# Altium schematic symbol library SamacSys.SchLib: 35 symbols
Pins are listed as number, name and electrical type; pins without a type are passive.

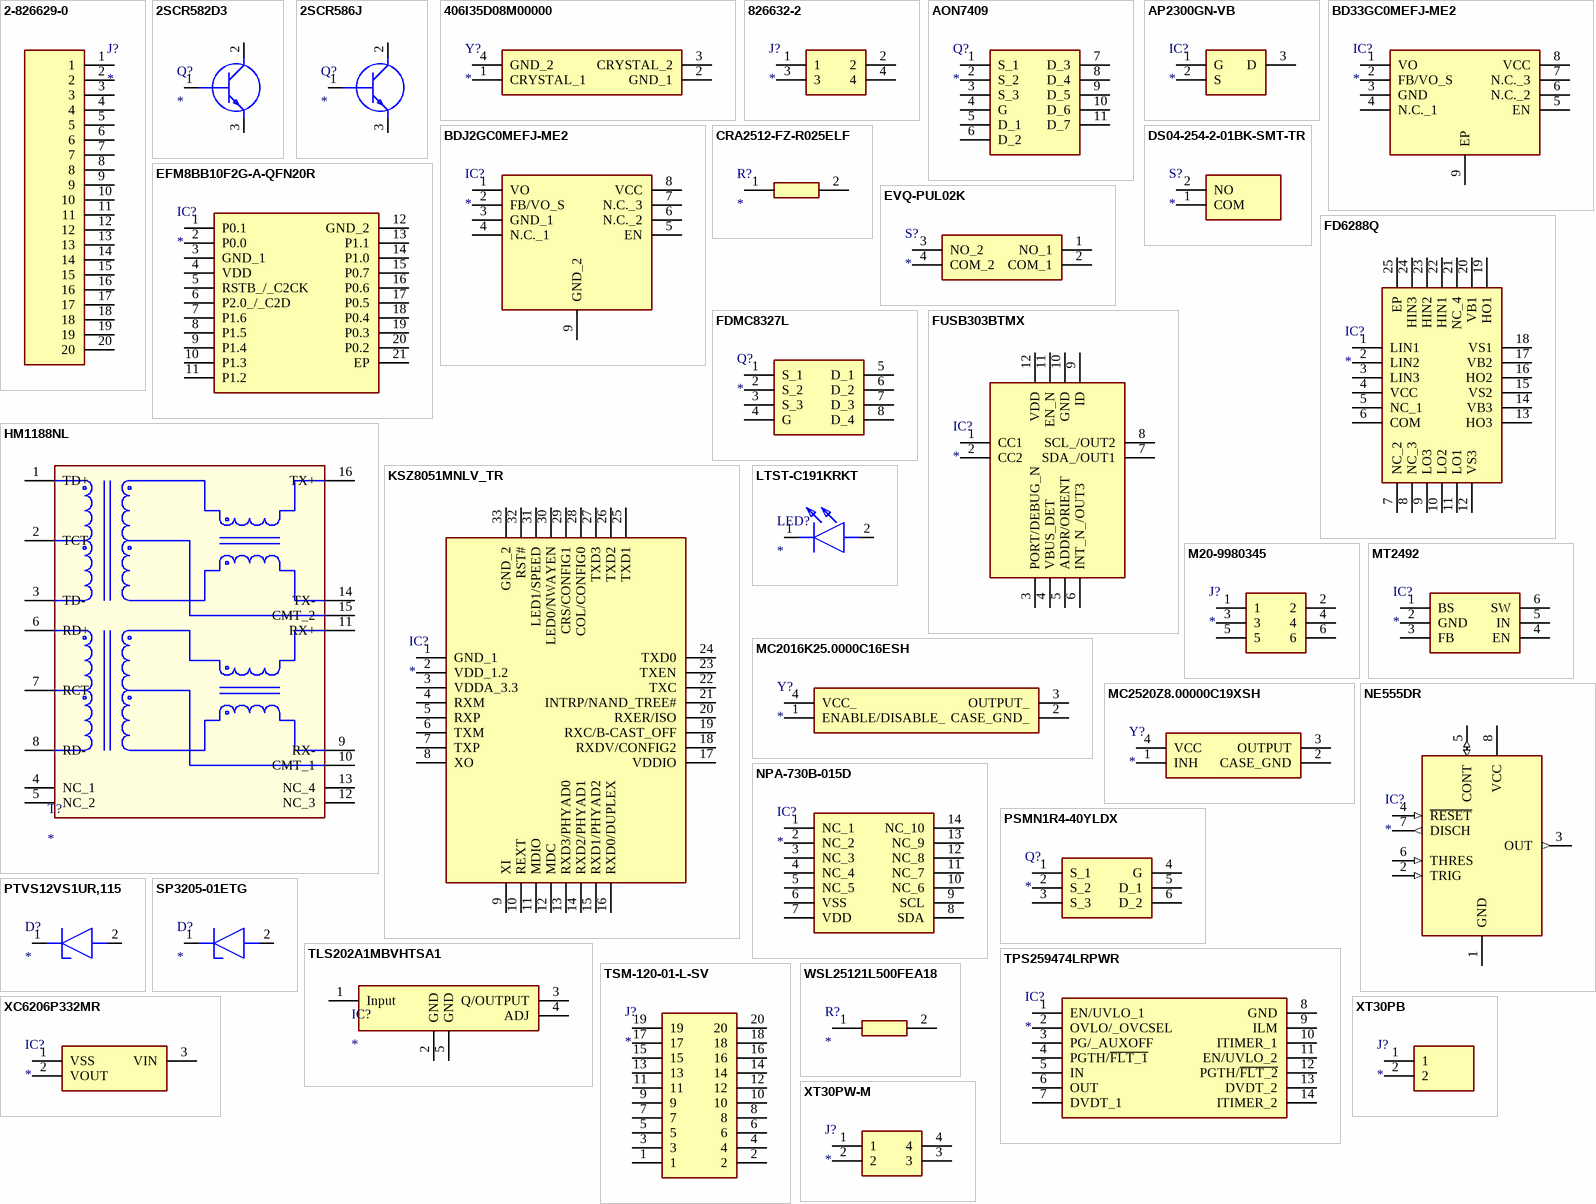
[diagram p0: symbols 2-826629-0 to XT30PW-M]

## 2-826629-0
designator J?
Connector; Manufacturer_Name: TE Connectivity; Manufacturer_Part_Number: 2-826629-0; Datasheet Link: http://www.te.com/commerce/DocumentDelivery/DDEController?Action=showdoc&DocId=Customer+Drawing%7F826629%7FAC%7Fpdf%7FEnglish%7FENG_CD_826629_AC.pdf%7F2-826629-0; Height: 9.5mm; Mouser Part Number: 571-2-826629-0; Mouser Price/Stock: https://www.mouser.co.uk/ProductDetail/TE-Connectivity/2-826629-0?qs=FazuUmncXom55roGwM1n6g%3D%3D; Arrow Part Number: 2-826629-0; Arrow Price/Stock: https://www.arrow.com/en/products/2-826629-0/te-connectivity
footprint HDRV20W63P0X254_1X20_5080X250X950P
pins: 1, 2, 3, 4, 5, 6, 7, 8, 9, 10, 11, 12, 13, 14, 15, 16, 17, 18, 19, 20

## 2SCR582D3
designator Q?
Transistor BJT NPN; Manufacturer_Name: ROHM Semiconductor; Manufacturer_Part_Number: 2SCR582D3; Datasheet Link: https://fscdn.rohm.com/en/products/databook/datasheet/discrete/transistor/bipolar/2scr582d3tl-e.pdf; Height: 2.2mm
footprint 2SAR573D3FRA
pins: 1 B, 2 C, 3 E

## 2SCR586J
designator Q?
Transistor BJT NPN; Manufacturer_Name: ROHM Semiconductor; Manufacturer_Part_Number: 2SCR586J; Datasheet Link: https://fscdn.rohm.com/en/products/databook/datasheet/discrete/transistor/bipolar/2scr586jfrgtll-e.pdf; Height: 4.5mm
footprint 2SCR586J
pins: 1 B, 2 C, 3 E

## 406I35D08M00000
designator Y?
Crystal or Oscillator; Manufacturer_Name: CTS; Manufacturer_Part_Number: 406I35D08M00000; Datasheet Link: https://www.ctscorp.com/wp-content/uploads/2015/12/008-0260-0.pdf; Height: 1.2mm; Mouser Part Number: 774-406I35D08M00000; Mouser Price/Stock: https://www.mouser.co.uk/ProductDetail/CTS-Electronic-Components/406I35D08M00000?qs=tjlMjqRIEYS%252BFfIvx6jyTQ%3D%3D; Arrow Part Number: 406I35D08M00000; Arrow Price/Stock: https://www.arrow.com/en/products/406i35d08m00000/cts
footprint 406I35D08M00000
pins: 1 CRYSTAL_1, 2 GND_1, 3 CRYSTAL_2, 4 GND_2

## 826632-2
designator J?
Connector; Manufacturer_Name: TE Connectivity; Manufacturer_Part_Number: 826632-2; Datasheet Link: https://datasheet.datasheetarchive.com/originals/distributors/Datasheets-DGA21/2082916.pdf; Height: 9.7mm; Mouser Part Number: 571-826632-2; Mouser Price/Stock: https://www.mouser.co.uk/ProductDetail/TE-Connectivity/826632-2?qs=6Tj7fpyCzVqX33s56cqpJA%3D%3D; Arrow Part Number: 826632-2; Arrow Price/Stock: https://www.arrow.com/en/products/826632-2/te-connectivity?region=europe
footprint HDRV4W85P254_2X2_508X500X970P
pins: 1, 2, 3, 4

## AON7409
designator Q?
MOSFET (P-Channel); Manufacturer_Name: Alpha & Omega Semiconductors; Manufacturer_Part_Number: AON7409; Datasheet Link: http://www.aosmd.com/res/data_sheets/AON7409.pdf; Height: 0.9mm; Arrow Part Number: AON7409; Arrow Price/Stock: https://www.arrow.com/en/products/aon7409/alpha-and-omega-semiconductor
footprint AON7409
pins: 1 S_1, 2 S_2, 3 S_3, 4 G, 5 D_1, 6 D_2, 7 D_3, 8 D_4, 9 D_5, 10 D_6, 11 D_7

## AP2300GN-VB
designator IC?
Integrated Circuit; Manufacturer_Name: VBsemi Elec; Manufacturer_Part_Number: AP2300GN-VB; Datasheet Link: https://datasheet.lcsc.com/lcsc/2211010930_VBsemi-Elec-AP2300GN-VB_C709910.pdf; Height: 1.12mm
footprint SOT95P237X112-3N
pins: 1 G, 2 S, 3 D

## BD33GC0MEFJ-ME2
designator IC?
Integrated Circuit; Manufacturer_Name: ROHM Semiconductor; Manufacturer_Part_Number: BD33GC0MEFJ-ME2; Datasheet Link: https://www.mouser.cl/datasheet/2/348/bdxxgc0mefj-m-e-1874062.pdf; Height: 1mm; Mouser Part Number: 755-BD33GC0MEFJ-ME2; Mouser Price/Stock: https://www.mouser.com/Search/Refine.aspx?Keyword=755-BD33GC0MEFJ-ME2
footprint SOIC127P600X100-9N
pins: 1 VO, 2 FB/VO_S, 3 GND, 4 N.C._1, 5 EN, 6 N.C._2, 7 N.C._3, 8 VCC, 9 EP

## BDJ2GC0MEFJ-ME2
designator IC?
Integrated Circuit; Manufacturer_Name: ROHM Semiconductor; Manufacturer_Part_Number: BDJ2GC0MEFJ-ME2; Datasheet Link: https://datasheet.datasheetarchive.com/originals/dk/DKDS-10/186399.pdf; Height: 1mm; Mouser Part Number: 755-BDJ2GC0MEFJ-ME2; Mouser Price/Stock: https://www.mouser.co.uk/ProductDetail/ROHM-Semiconductor/BDJ2GC0MEFJ-ME2?qs=9Cg39qEKpi4UJ85%2FAll47w%3D%3D
footprint SOIC127P600X100-9N
pins: 1 VO, 2 FB/VO_S, 3 GND_1, 4 N.C._1, 5 EN, 6 N.C._2, 7 N.C._3, 8 VCC, 9 GND_2

## CRA2512-FZ-R025ELF
designator R?
Resistor; Manufacturer_Name: Bourns; Manufacturer_Part_Number: CRA2512-FZ-R025ELF; Datasheet Link: https://datasheet.datasheetarchive.com/originals/distributors/SFDatasheet-7/sf-000140177.pdf; Height: 0.9mm; Mouser Part Number: 652-CRA2512FZR025ELF; Mouser Price/Stock: https://www.mouser.co.uk/ProductDetail/Bourns/CRA2512-FZ-R025ELF?qs=GqIuCp6zjbWCbaqRzHZejQ%3D%3D; Arrow Part Number: CRA2512-FZ-R025ELF; Arrow Price/Stock: https://www.arrow.com/en/products/cra2512-fz-r025elf/bourns?region=nac
footprint RESC6434X90N
pins: 1, 2

## DS04-254-2-01BK-SMT-TR
designator S?
Switch; Manufacturer_Name: CUI Devices; Manufacturer_Part_Number: DS04-254-2-01BK-SMT-TR; Datasheet Link: https://www.cuidevices.com/product/resource/supplyframepdf/ds04-254-smt.pdf; Height: 4.3mm; Mouser Part Number: 490-DS04254201BK-STR; Mouser Price/Stock: https://www.mouser.co.uk/ProductDetail/CUI-Devices/DS04-254-2-01BK-SMT-TR?qs=wnTfsH77Xs4xXRFXKF0ssg%3D%3D; Arrow Part Number: DS04-254-2-01BK-SMT-TR; Arrow Price/Stock: https://www.arrow.com/en/products/ds04-254-2-01bk-smt-tr/cui-devices?region=nac
footprint DS04254201BKSMTTR
pins: 1 COM, 2 NO

## EFM8BB10F2G-A-QFN20R
designator IC?
Integrated Circuit; Manufacturer_Name: Silicon Labs; Manufacturer_Part_Number: EFM8BB10F2G-A-QFN20R; Datasheet Link: https://www.silabs.com/documents/public/data-sheets/efm8bb1-datasheet.pdf; Height: 0.8mm; Mouser Part Number: 634-8BB10F2GAQF20R; Mouser Price/Stock: https://www.mouser.co.uk/ProductDetail/Silicon-Labs/EFM8BB10F2G-A-QFN20R?qs=DCjbIwhU0ZtADu%252B55HsWtA%3D%3D
footprint EFM8BB10F2GAQFN20R
pins: 1 P0.1, 2 P0.0, 3 GND_1, 4 VDD, 5 RSTB_/_C2CK, 6 P2.0_/_C2D, 7 P1.6, 8 P1.5, 9 P1.4, 10 P1.3, 11 P1.2, 12 GND_2, 13 P1.1, 14 P1.0, 15 P0.7, 16 P0.6, 17 P0.5, 18 P0.4, 19 P0.3, 20 P0.2, 21 EP

## EVQ-PUL02K
designator S?
Switch; Manufacturer_Name: Panasonic; Manufacturer_Part_Number: EVQ-PUL02K; Datasheet Link: https://www3.panasonic.biz/ac/e_download/control/switch/light-touch/catalog/sw_lt_eng_smalls_side.pdf?f_cd=402910&via=ok; Height: 1.95mm; Mouser Part Number: 667-EVQ-PUL02K; Mouser Price/Stock: https://www.mouser.co.uk/ProductDetail/Panasonic/EVQ-PUL02K?qs=m7HfDvvzlLb0VFxnw%2FUN1w%3D%3D; Arrow Part Number: EVQ-PUL02K; Arrow Price/Stock: https://www.arrow.com/en/products/evq-pul02k/panasonic?region=nac
footprint EVQPUL02K
pins: 1 NO_1, 2 COM_1, 3 NO_2, 4 COM_2

## FD6288Q
designator IC?
Integrated Circuit; Manufacturer_Name: Fortior Tech; Manufacturer_Part_Number: FD6288Q; Datasheet Link: https://datasheet.lcsc.com/szlcsc/1811131655_Fortior-Tech-FD6288Q_C328453.pdf; Height: 0.9mm
footprint QFN50P400X400X90-25N-D
pins: 1 LIN1, 2 LIN2, 3 LIN3, 4 VCC, 5 NC_1, 6 COM, 7 NC_2, 8 NC_3, 9 LO3, 10 LO2, 11 LO1, 12 VS3, 13 HO3, 14 VB3, 15 VS2, 16 HO2, 17 VB2, 18 VS1, 19 HO1, 20 VB1, 21 NC_4, 22 HIN1, 23 HIN2, 24 HIN3, 25 EP

## FDMC8327L
designator Q?
MOSFET (N-Channel); Manufacturer_Name: onsemi; Manufacturer_Part_Number: FDMC8327L; Datasheet Link: https://www.onsemi.com/pub/Collateral/FDMC8327L-D.pdf; Mouser Part Number: 512-FDMC8327L; Mouser Price/Stock: https://www.mouser.co.uk/ProductDetail/ON-Semiconductor-Fairchild/FDMC8327L?qs=WCuZTSj0%252BHDvMqCYzCnZnA%3D%3D; Arrow Part Number: FDMC8327L; Arrow Price/Stock: https://www.arrow.com/en/products/fdmc8327l/on-semiconductor?region=europe
footprint FDMC86139P
pins: 1 S_1, 2 S_2, 3 S_3, 4 G, 5 D_1, 6 D_2, 7 D_3, 8 D_4

## FUSB303BTMX
designator IC?
Integrated Circuit; Manufacturer_Name: onsemi; Manufacturer_Part_Number: FUSB303BTMX; Datasheet Link: https://4donline.ihs.com/images/VipMasterIC/IC/ONSM/ONSM-S-A0010100794/ONSM-S-A0010303305-1.pdf?hkey=6D3A4C79FDBF58556ACFDE234799DDF0; Height: 0.4mm; Mouser Part Number: 863-FUSB303BTMX; Mouser Price/Stock: https://www.mouser.co.uk/ProductDetail/onsemi/FUSB303BTMX?qs=sPbYRqrBIVmcLV%2Fy3uB%2FTA%3D%3D; Arrow Part Number: FUSB303BTMX; Arrow Price/Stock: https://www.arrow.com/en/products/fusb303btmx/on-semiconductor?region=nac
footprint FUSB303BTMX
pins: 1 CC1, 2 CC2, 3 PORT/DEBUG_N, 4 VBUS_DET, 5 ADDR/ORIENT, 6 INT_N_/OUT3, 7 SDA_/OUT1, 8 SCL_/OUT2, 9 ID, 10 GND, 11 EN_N, 12 VDD

## HM1188NL
designator T?
Transformer; Manufacturer_Name: Pulse Electronics; Manufacturer_Part_Number: HM1188NL; Datasheet Link: https://componentsearchengine.com/Datasheets/1/HM1188NL.pdf; Height: 5.969mm; Mouser Part Number: 673-HM1188NL; Mouser Price/Stock: https://www.mouser.co.uk/ProductDetail/Pulse-Electronics/HM1188NL?qs=IbBl3rwNelMAAot5OPq3lA%3D%3D; Arrow Part Number: HM1188NL; Arrow Price/Stock: https://www.arrow.com/en/products/hm1188nl/pulse-electronics-corporation?region=nac
footprint HM1188NL
pins: 1 TD+, 2 TCT, 3 TD-, 4 NC_1, 5 NC_2, 6 RD+, 7 RCT, 8 RD-, 9 RX-, 10 CMT_1, 11 RX+, 12 NC_3, 13 NC_4, 14 TX-, 15 CMT_2, 16 TX+

## KSZ8051MNLV_TR
designator IC?
Integrated Circuit; Manufacturer_Name: Microchip; Manufacturer_Part_Number: KSZ8051MNLV TR; Datasheet Link: http://ww1.microchip.com/downloads/en/DeviceDoc/KSZ8051MNLV-RNLV.pdf; Height: 0.9mm; Mouser Part Number: N/A; Mouser Price/Stock: https://www.mouser.com/Search/Refine.aspx?Keyword=N%2FA
footprint QFN50P500X500X90-33N-D
pins: 1 GND_1, 2 VDD_1.2, 3 VDDA_3.3, 4 RXM, 5 RXP, 6 TXM, 7 TXP, 8 XO, 9 XI, 10 REXT, 11 MDIO, 12 MDC, 13 RXD3/PHYAD0, 14 RXD2/PHYAD1, 15 RXD1/PHYAD2, 16 RXD0/DUPLEX, 17 VDDIO, 18 RXDV/CONFIG2, 19 RXC/B-CAST_OFF, 20 RXER/ISO, 21 INTRP/NAND_TREE#, 22 TXC, 23 TXEN, 24 TXD0, 25 TXD1, 26 TXD2, 27 TXD3, 28 COL/CONFIG0, 29 CRS/CONFIG1, 30 LED0/NWAYEN, 31 LED1/SPEED, 32 RST#, 33 GND_2

## LTST-C191KRKT
designator LED?
LED; Manufacturer_Name: Lite-On; Manufacturer_Part_Number: LTST-C191KRKT; Datasheet Link: http://www.mouser.com/ds/2/239/S_110_LTST-C191KRKT-539838.pdf; Height: 0.55mm; Mouser Part Number: 859-LTST-C191KRKT; Mouser Price/Stock: https://www.mouser.co.uk/ProductDetail/Lite-On/LTST-C191KRKT?qs=BAIUz4Y8PJBLfOhzue0q%252BA%3D%3D; Arrow Part Number: LTST-C191KRKT; Arrow Price/Stock: https://www.arrow.com/en/products/ltst-c191krkt/lite-on-technology?region=nac
footprint LEDC1608X55N
pins: 1 K, 2 A

## M20-9980345
designator J?
Connector; Manufacturer_Name: Harwin; Manufacturer_Part_Number: M20-9980345; Datasheet Link: https://cdn.harwin.com/pdfs/M20-998.pdf; Height: 8.64mm; Mouser Part Number: 855-M20-9980345; Mouser Price/Stock: https://www.mouser.co.uk/ProductDetail/Harwin/M20-9980345?qs=%252Bk6%2F5FB6qrmWKPTw4u3RIA%3D%3D
footprint HDRV6W64P254_2X3_762X508X864P
pins: 1, 2, 3, 4, 5, 6

## MC2016K25.0000C16ESH
designator Y?
Crystal or Oscillator; Manufacturer_Name: KYOCERA; Manufacturer_Part_Number: MC2016K25.0000C16ESH; Datasheet Link: https://media.digikey.com/pdf/Data%20Sheets/AVX%20PDFs/MC2016K25.0000C16ESH_Spec~.pdf; Height: 0.8mm; Mouser Part Number: 581-MC2016K25.C16ESH; Mouser Price/Stock: https://www.mouser.co.uk/ProductDetail/KYOCERA-AVX/MC2016K25.0000C16ESH?qs=yTuLhIm%2Fv1ApwYpapkX4jg%3D%3D; Arrow Part Number: MC2016K25.0000C16ESH; Arrow Price/Stock: https://www.arrow.com/en/products/mc2016k25.0000c16esh/kyocera?region=nac
footprint MC2016K250000C16ESH
pins: 1 ENABLE/DISABLE_, 2 CASE_GND_, 3 OUTPUT_, 4 VCC_

## MC2520Z8.00000C19XSH
designator Y?
Crystal or Oscillator; Manufacturer_Name: Kyocera AVX; Manufacturer_Part_Number: MC2520Z8.00000C19XSH; Description: Standard Clock Oscillators; Datasheet Link: https://kr.mouser.com/datasheet/2/909/clock_mcz_xz_e-1845782.pdf; Height: 0.9mm; Mouser Part Number: 346-MC2520Z8.00000C1; Mouser Price/Stock: https://www.mouser.co.uk/ProductDetail/Kyocera-Electronic-Components/MC2520Z800000C19XSH?qs=GBLSl2AkiruYmi3bsNLTwA%3D%3D
footprint MC2520Z800000C19XSH
pins: 1 INH, 2 CASE_GND, 3 OUTPUT, 4 VCC

## MT2492
designator IC?
Integrated Circuit; Manufacturer_Name: Aerosemi; Manufacturer_Part_Number: MT2492; Datasheet Link: https://datasheet.lcsc.com/lcsc/1810262207_XI-AN-Aerosemi-Tech-MT2492_C89358.pdf; Height: 1.45mm
footprint SOT95P280X145-6N
pins: 1 BS, 2 GND, 3 FB, 4 EN, 5 IN, 6 SW

## NE555DR
designator IC?
Integrated Circuit; Manufacturer_Name: Texas Instruments; Manufacturer_Part_Number: NE555DR; Datasheet Link: http://www.ti.com/lit/ds/symlink/ne555.pdf; Height: 1.75mm; Mouser Part Number: 595-NE555DR; Mouser Price/Stock: https://www.mouser.com/Search/Refine.aspx?Keyword=595-NE555DR; RS Part Number: 1218414; RS Price/Stock: http://uk.rs-online.com/web/p/products/1218414
footprint SOIC127P600X175-8N
pins: 1 GND (power), 2 TRIG (in), 3 OUT (out), 4 ~{RESET} (in), 5 CONT (io), 6 THRES (in), 7 DISCH (out), 8 VCC (power)

## NPA-730B-015D
designator IC?
Integrated Circuit; Manufacturer_Name: Amphenol; Manufacturer_Part_Number: NPA-730B-015D; Datasheet Link: https://www.mouser.co.uk/datasheet/2/18/1/Amphenol_12202018_AAS-920-644D-NovaSensor-NPA-Low--1672534.pdf; Height: 9.5mm; Mouser Part Number: 527-NPA-730B-015D; Mouser Price/Stock: https://www.mouser.co.uk/ProductDetail/Amphenol-Advanced-Sensors/NPA-730B-015D?qs=l7cgNqFNU1j4joMoFZUW7Q%3D%3D
footprint NPA730B015D
pins: 1 NC_1, 2 NC_2, 3 NC_3, 4 NC_4, 5 NC_5, 6 VSS, 7 VDD, 8 SDA, 9 SCL, 10 NC_6, 11 NC_7, 12 NC_8, 13 NC_9, 14 NC_10

## PSMN1R4-40YLDX
designator Q?
MOSFET (N-Channel); Manufacturer_Name: Nexperia; Manufacturer_Part_Number: PSMN1R4-40YLDX; Datasheet Link: https://www.arrow.com/en/products/psmn1r4-40yldx/nexperia?region=nac; Height: 1.2mm; Mouser Part Number: 771-PSMN1R4-40YLDX; Mouser Price/Stock: https://www.mouser.co.uk/ProductDetail/Nexperia/PSMN1R4-40YLDX?qs=ZVwgz1t1jxfe74uBbFBUCA%3D%3D; Arrow Part Number: PSMN1R4-40YLDX; Arrow Price/Stock: https://www.arrow.com/en/products/psmn1r4-40yldx/nexperia?region=nac
footprint BUK7Y1255B115
pins: 1 S_1, 2 S_2, 3 S_3, 4 G, 5 D_1, 6 D_2

## PTVS12VS1UR,115
designator D?
Diode ESD (Uni-directional); Manufacturer_Name: Nexperia; Manufacturer_Part_Number: PTVS12VS1UR,115; Datasheet Link: https://assets.nexperia.com/documents/data-sheet/PTVSXS1UR_SER.pdf; Mouser Part Number: 771-PTVS12VS1UR115; Mouser Price/Stock: https://www.mouser.co.uk/ProductDetail/Nexperia/PTVS12VS1UR115?qs=LMSg3oBIm%2FiWSHvsyxWiLg%3D%3D; Arrow Part Number: PTVS12VS1UR,115; Arrow Price/Stock: https://www.arrow.com/en/products/ptvs12vs1ur115/nexperia?region=nac
footprint SOD123W
pins: 1 K, 2 A

## SP3205-01ETG
designator D?
Diode ESD (Uni-directional); Manufacturer_Name: LITTELFUSE; Manufacturer_Part_Number: SP3205-01ETG; Datasheet Link: https://4donline.ihs.com/images/VipMasterIC/IC/LFSI/LFSI-S-A0010724013/LFSI-S-A0010724013-1.pdf?hkey=6D3A4C79FDBF58556ACFDE234799DDF0; Height: 0.55mm; Mouser Part Number: 576-SP3205-01ETG; Mouser Price/Stock: https://www.mouser.co.uk/ProductDetail/Littelfuse/SP3205-01ETG?qs=vHuUswq2%252BswfNhVD4WkB%252BQ%3D%3D; Arrow Part Number: SP3205-01ETG; Arrow Price/Stock: https://www.arrow.com/en/products/sp3205-01etg/littelfuse?region=nac
footprint SP320501ETG
pins: 1 K, 2 A

## TLS202A1MBVHTSA1
designator IC?
Integrated Circuit; Manufacturer_Name: Infineon; Manufacturer_Part_Number: TLS202A1MBVHTSA1; Datasheet Link: https://www.infineon.com/dgdl/Infineon-TLS202A1MBV-DS-v01_00-EN.pdf?fileId=5546d46258fc0bc1015969d30cbf4211; Mouser Part Number: 726-TLS202A1MBVHTSA1; Mouser Price/Stock: https://www.mouser.co.uk/ProductDetail/Infineon-Technologies/TLS202A1MBVHTSA1?qs=0DP5yvOrqYl%252BugsjRWokhA%3D%3D
footprint TLS202A1MBVHTSA1
pins: 1 Input, 2 GND, 3 Q/OUTPUT, 4 ADJ, 5 GND

## TPS259474LRPWR
designator IC?
Integrated Circuit; Manufacturer_Name: Texas Instruments; Manufacturer_Part_Number: TPS259474LRPWR; Datasheet Link: https://www.ti.com/lit/gpn/tps25981; Height: 1mm; Mouser Part Number: 595-TPS259474LRPWR; Mouser Price/Stock: https://www.mouser.co.uk/ProductDetail/Texas-Instruments/TPS259474LRPWR?qs=iLbezkQI%252BsixXidX03eIQA%3D%3D; Arrow Part Number: TPS259474LRPWR; Arrow Price/Stock: https://www.arrow.com/en/products/tps259474lrpwr/texas-instruments?region=nac
footprint TPS259474LRPWR
pins: 1 EN/UVLO_1, 2 OVLO/_OVCSEL, 3 PG/_AUXOFF, 4 PGTH/~{FLT_1}, 5 IN, 6 OUT, 7 DVDT_1, 8 GND, 9 ILM, 10 ITIMER_1, 11 EN/UVLO_2, 12 PGTH/~{FLT_2}, 13 DVDT_2, 14 ITIMER_2

## TSM-120-01-L-SV
designator J?
Connector; Manufacturer_Name: SAMTEC; Manufacturer_Part_Number: TSM-120-01-L-SV; Datasheet Link: http://suddendocs.samtec.com/prints/tsm-1xx-xx-xxx-sv-xx-xxx-xx-mkt.pdf; Height: 8.38mm; Mouser Part Number: 200-TSM12001LSV; Mouser Price/Stock: https://www.mouser.co.uk/ProductDetail/Samtec/TSM-120-01-L-SV/?qs=rU5fayqh%252BE3nW%2FpAlj4wDg%3D%3D
footprint TSM12001LSV
pins: 1, 2, 3, 4, 5, 6, 7, 8, 9, 10, 11, 12, 13, 14, 15, 16, 17, 18, 19, 20

## WSL25121L500FEA18
designator R?
Resistor; Manufacturer_Name: Vishay; Manufacturer_Part_Number: WSL25121L500FEA18; Datasheet Link: http://www.vishay.com/docs/31057/wslhigh.pdf; Height: 0.889mm; Mouser Part Number: 71-WSL25121L500FEA18; Mouser Price/Stock: https://www.mouser.co.uk/ProductDetail/Vishay-Dale/WSL25121L500FEA18?qs=IGB1kkHgDMgg5mbx9uPwvA%3D%3D
footprint RESC6432X89N
pins: 1, 2

## XC6206P332MR
designator IC?
Integrated Circuit; Manufacturer_Name: UMW(Youtai Semiconductor Co.; Manufacturer_Part_Number: XC6206P332MR; Datasheet Link: https://datasheet.lcsc.com/szlcsc/1812131433_Youtai-Semiconductor-Co-Ltd-XC6206P332MR_C347376.pdf; Height: 1.15mm
footprint SOT95P240X115-3N
pins: 1 VSS, 2 VOUT, 3 VIN

## XT30PB
designator J?
Connector; Manufacturer_Name: Amass; Manufacturer_Part_Number: XT30PB; Datasheet Link: https://www.tme.eu/Document/4acc913878197f8c2e30d4b8cdc47230/XT30UPB%20SPEC.pdf; Height: 10.7mm
footprint XT30PB
pins: 1, 2

## XT30PW-M
designator J?
Connector; Manufacturer_Name: Amass; Manufacturer_Part_Number: XT30PW-M; Datasheet Link: https://www.tme.eu/sl/Document/ce4077e36b79046da520ca73227e15de/XT30PW%20SPEC.pdf; Height: 5mm
footprint XT30PWM
pins: 1, 2, 3, 4